# EAGLE library part RN-42-HID-RD1 (library RN-42-HID-RD1)
RN-42 Series 3 Mbps 30 mA Class 2 Bluetooth Module
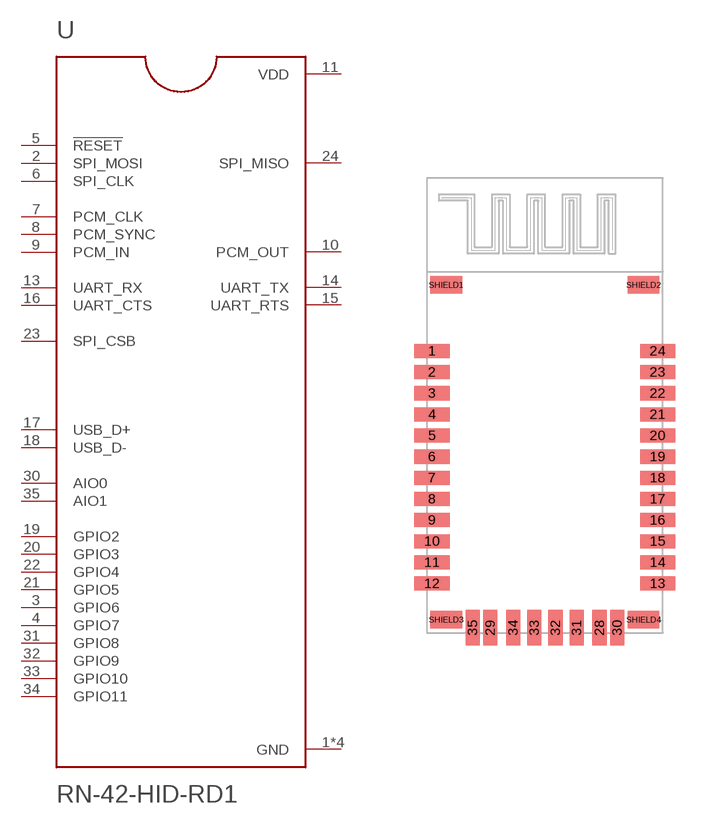
[diagram p0: symbol with the pads of MICROCHIP_RN-42-HID-RD1; footprint MICROCHIP_RN-42-HID-RD1]

Designator prefix -

## RN-42-HID-RD1  [MICROCHIP_RN-42-HID-RD1]
1  GND  pas
2  SPI_MOSI  pas
3  GPIO6
4  GPIO7
5  !RESET  in
6  SPI_CLK  pas
7  PCM_CLK  pas
8  PCM_SYNC  pas
9  PCM_IN  pas
10  PCM_OUT  out
11  VDD  pwr
12  GND  pas
13  UART_RX  in
14  UART_TX  out
15  UART_RTS  out
16  UART_CTS  in
17  USB_D+
18  USB_D-
19  GPIO2
20  GPIO3
21  GPIO5
22  GPIO4
23  SPI_CSB  pas
24  SPI_MISO  out
28  GND  pas
29  GND  pas
30  AIO0
31  GPIO8
32  GPIO9
33  GPIO10
34  GPIO11
35  AIO1

## Footprint MICROCHIP_RN-42-HID-RD1 (pad centres in mm)
smd 2 x 0.8: 1 -6.4,3.1; 2 -6.4,1.9; 3 -6.4,0.7; 4 -6.4,-0.5; 5 -6.4,-1.7; 6 -6.4,-2.9; 7 -6.4,-4.1; 8 -6.4,-5.3; 9 -6.4,-6.5; 10 -6.4,-7.7; 11 -6.4,-8.9; 12 -6.4,-10.1; 13 6.4,-10.1; 14 6.4,-8.9; 15 6.4,-7.7; 16 6.4,-6.5; 17 6.4,-5.3; 18 6.4,-4.1; 19 6.4,-2.9; 20 6.4,-1.7; 21 6.4,-0.5; 22 6.4,0.7; 23 6.4,1.9; 24 6.4,3.1
smd 0.8 x 2: 28 3.1,-12.6; 29 -3.1,-12.6; 30 4.1,-12.6; 31 1.8,-12.6; 32 0.6,-12.6; 33 -0.6,-12.6; 34 -1.8,-12.6; 35 -4.1,-12.6
smd 1.8 x 1: SHIELD1 -5.6,6.85; SHIELD2 5.6,6.85; SHIELD3 -5.6,-12.15; SHIELD4 5.6,-12.15